# EAGLE library part INA282 (library eric-custom)
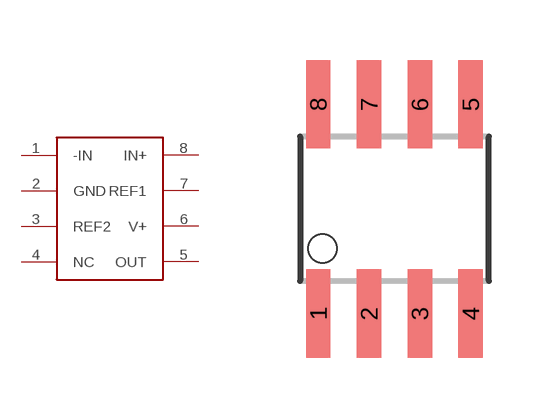
[diagram p1: symbol with the pads of SO08; footprint SO08]

Designator prefix -

## INA282  [SO08]
1  -IN
2  GND
3  REF2
4  NC
5  OUT
6  V+
7  REF1
8  IN+

## Footprint SO08 (pad centres in mm)
Small Outline Package
smd 0.61 x 2.21: 1 -1.905,-2.616; 2 -0.635,-2.616; 3 0.635,-2.616; 4 1.905,-2.616; 5 1.905,2.616; 6 0.635,2.616; 7 -0.635,2.616; 8 -1.905,2.616